# Altium footprint library Nova_PCBLIB.PcbLib: 31 footprints (part 1 of 2)
Each footprint in its own frame and in the unit in brackets; x right, y up, seen from the top. Pads: shape width x height; smd on the part's side, far side on the other; paste and mask are expansions set on the pad; w line width, h text height; cw(c..) or ccw(c..) is an arc to the next point about the centre after c.
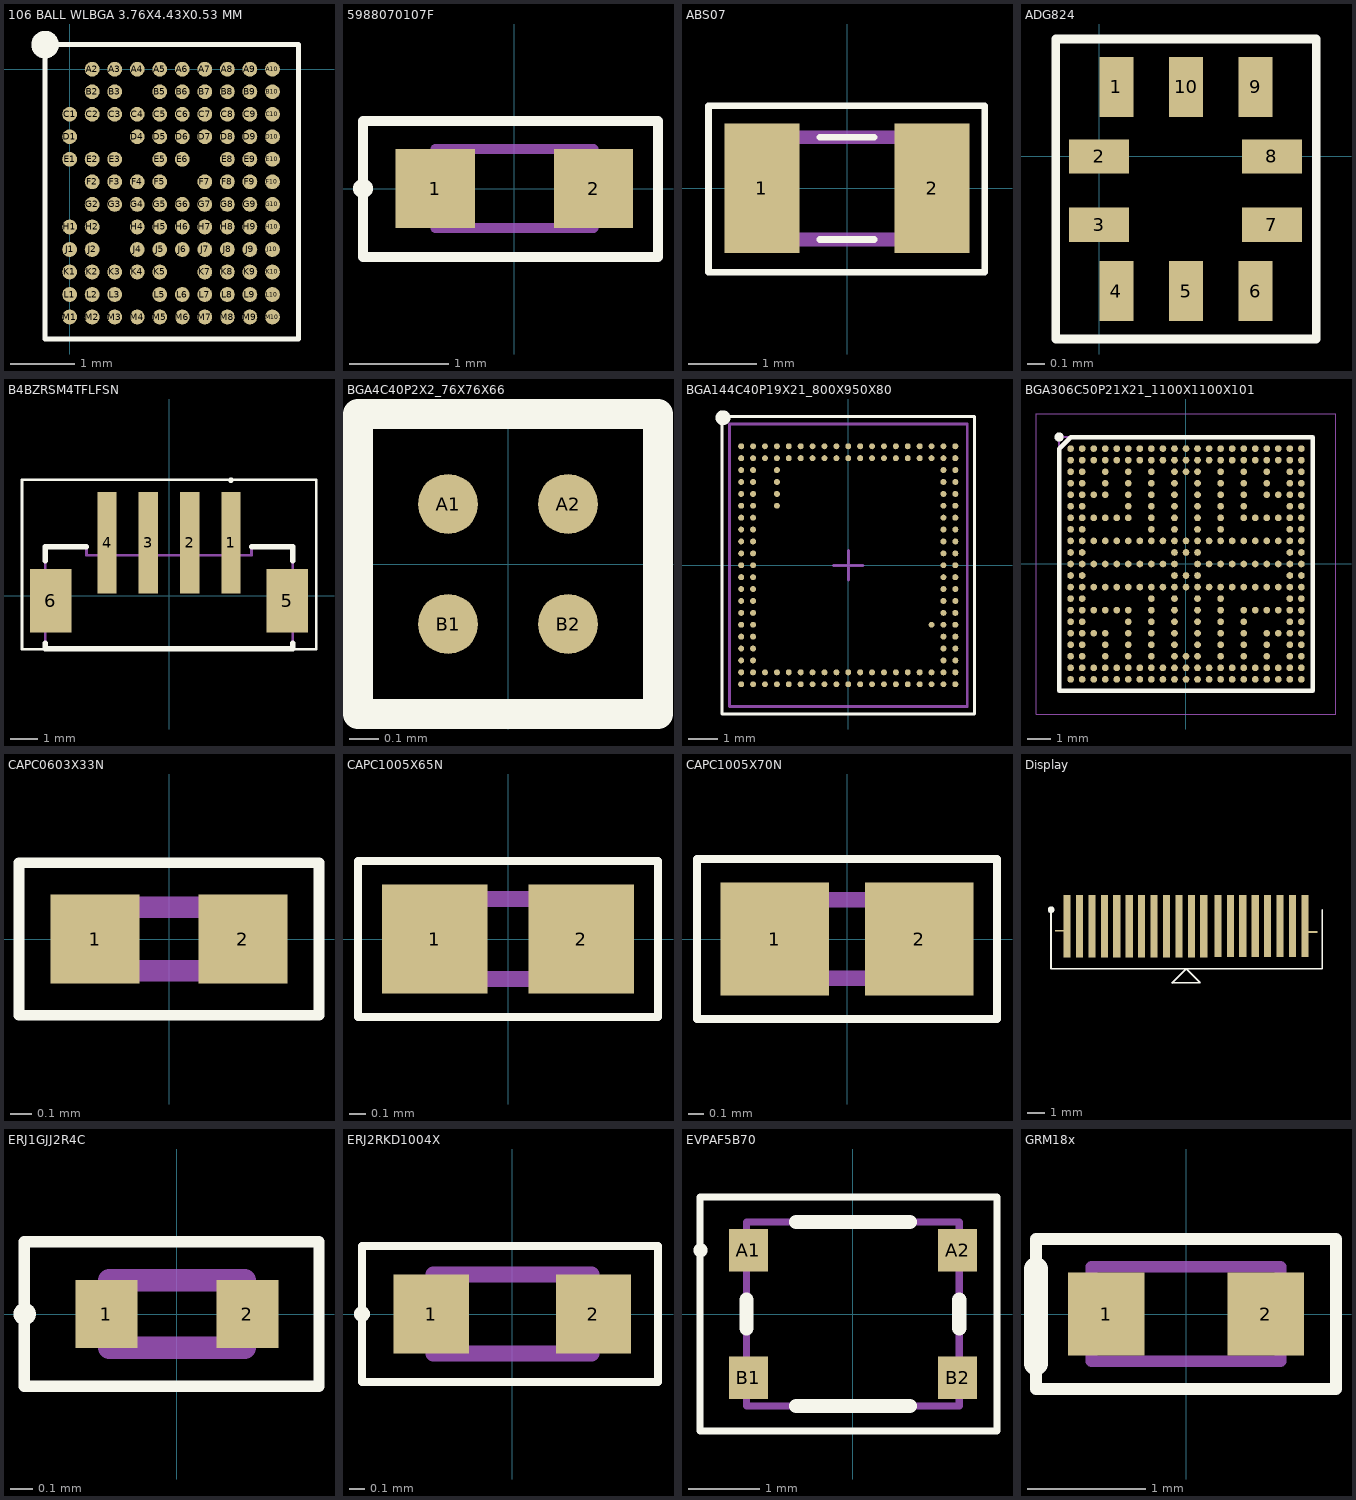
[diagram p0: the footprints below, top view; thin cyan lines are the x and y axes]

## 106 BALL WLBGA 3.76X4.43X0.53 MM [mm]
pads (106):
  round 0.23 smd mask+0.02: A2(0.35,0) A3(0.7,0) A4(1.05,0) A5(1.4,0) A6(1.75,0) A7(2.1,0) A8(2.45,0) A9(2.8,0) A10(3.15,0) B2(0.35,-0.35) B3(0.7,-0.35) B5(1.4,-0.35) B6(1.75,-0.35) B7(2.1,-0.35) B8(2.45,-0.35) B9(2.8,-0.35) B10(3.15,-0.35) C1(0,-0.7) C2(0.35,-0.7) C3(0.7,-0.7) C4(1.05,-0.7) C5(1.4,-0.7) C6(1.75,-0.7) C7(2.1,-0.7) C8(2.45,-0.7) C9(2.8,-0.7) C10(3.15,-0.7) D1(0,-1.05) D4(1.05,-1.05) D5(1.4,-1.05) D6(1.75,-1.05) D7(2.1,-1.05) D8(2.45,-1.05) D9(2.8,-1.05) D10(3.15,-1.05) E1(0,-1.4) E2(0.35,-1.4) E3(0.7,-1.4) E5(1.4,-1.4) E6(1.75,-1.4) E8(2.45,-1.4) E9(2.8,-1.4) E10(3.15,-1.4) F2(0.35,-1.75) F3(0.7,-1.75) F4(1.05,-1.75) F5(1.4,-1.75) F7(2.1,-1.75) F8(2.45,-1.75) F9(2.8,-1.75) F10(3.15,-1.75) G2(0.35,-2.1) G3(0.7,-2.1) G4(1.05,-2.1) G5(1.4,-2.1) G6(1.75,-2.1) G7(2.1,-2.1) G8(2.45,-2.1) G9(2.8,-2.1) G10(3.15,-2.1) H1(0,-2.45) H2(0.35,-2.45) H4(1.05,-2.45) H5(1.4,-2.45) H6(1.75,-2.45) H7(2.1,-2.45) H8(2.45,-2.45) H9(2.8,-2.45) H10(3.15,-2.45) J1(0,-2.8) J2(0.35,-2.8) J4(1.05,-2.8) J5(1.4,-2.8) J6(1.75,-2.8) J7(2.1,-2.8) J8(2.45,-2.8) J9(2.8,-2.8) J10(3.15,-2.8) K1(0,-3.15) K2(0.35,-3.15) K3(0.7,-3.15) K4(1.05,-3.15) K5(1.4,-3.15) K7(2.1,-3.15) K8(2.45,-3.15) K9(2.8,-3.15) K10(3.15,-3.15) L1(0,-3.5) L2(0.35,-3.5) L3(0.7,-3.5) L5(1.4,-3.5) L6(1.75,-3.5) L7(2.1,-3.5) L8(2.45,-3.5) L9(2.8,-3.5) L10(3.15,-3.5) M1(0,-3.85) M2(0.35,-3.85) M3(0.7,-3.85) M4(1.05,-3.85) M5(1.4,-3.85) M6(1.75,-3.85) M7(2.1,-3.85) M8(2.45,-3.85) M9(2.8,-3.85) M10(3.15,-3.85)
Top Overlay:
  circle w0.254: c-0.381,0.381 r0.088
  lines w0.08: -0.381,-4.191 -0.381,0.381 3.556,0.381 3.556,-4.191 -0.381,-4.191

## 5988070107F [mm]
pads (2):
  rect 0.8x0.8 smd: 1(-0.8,0) 2(0.8,0)
Top Overlay:
  lines w0.1: -1.58,0 ccw(c-1.53,0) -1.48,0 ccw(c-1.53,0) -1.58,0 ; -1.53,-0.69 1.45,-0.69 1.45,0.68 -1.53,0.68 -1.53,-0.69
Mechanical 13:
  lines w0.1: -0.8,-0.4 0.8,-0.4 0.8,0.4 -0.8,0.4 -0.8,-0.4
3D body "598-8070-107F.stp": height 0.7, standoff 0, extent -0.8,-0.4 0.8,0.4

## ABS07 [mm]
pads (2):
  rect 1.1x1.9 smd: 1(-1.25,0) 2(1.25,0)
Top Overlay:
  lines w0.1: -0.4,-0.75 0.4,-0.75 ; -0.4,0.75 0.4,0.75 ; -2.03,-1.23 2.02,-1.23 2.02,1.21 -2.03,1.21 -2.03,-1.23
Mechanical 13:
  lines w0.2: -1.6,-0.75 -1.6,0.75 1.6,0.75 1.6,-0.75 -1.6,-0.75
3D body "ABS07-32.768KHZ-T.stp": height 0.9, standoff 0, extent -1.6,-0.75 1.6,0.75

## ADG824 [mm]
pads (10):
  rect 0.2x0.35 smd mask+0.01: 1(0.102,0.406) 4(0.102,-0.787) 5(0.508,-0.787) 6(0.914,-0.787) 9(0.914,0.406) 10(0.508,0.406)
  rect 0.35x0.2 smd mask+0.01: 2(0,0) 3(0,-0.4) 7(1.01,-0.4) 8(1.01,0)
Top Overlay:
  lines w0.05: -0.254,-1.067 -0.254,0.686 1.27,0.686 1.27,-1.067 -0.254,-1.067
3D body "CP_10_10_ADI.step": height 1.4, standoff 0, extent -0.146,-0.993 1.15,0.607

## B4BZRSM4TFLFSN [mm]
pads (6):
  rect 0.7x3.7 smd: 1(2.25,1.925) 2(0.75,1.925) 3(-0.75,1.925) 4(-2.25,1.925)
  rect 1.5x2.3 smd: 5(4.3,-0.175) 6(-4.3,-0.175)
Top Overlay:
  lines w0.1: -5.34,-1.94 -5.34,4.22 5.35,4.22 5.35,-1.94 -5.34,-1.94 ; 2.25,4.15 ccw(c2.25,4.2) 2.25,4.25 ccw(c2.25,4.2) 2.25,4.15
  lines w0.2: -4.5,-1.725 -4.5,-1.925 4.5,-1.925 4.5,-1.725 ; -4.5,1.275 -4.5,1.775 -3,1.775 ; 3,1.775 4.5,1.775 4.5,1.275
Mechanical 13:
  lines w0.1: -4.5,-1.925 -4.5,1.775 -3,1.775 -3,1.475 0,1.475 3,1.475 3,1.775 4.5,1.775 4.5,-1.925 -4.5,-1.925
3D body "B4B-ZR-SM4-TF_LF__SN_.stp": height 5, standoff 0, extent -4.5,-1.67 4.5,3.53

## BGA4C40P2X2_76X76X66 [mil]
pads (4):
  round 8 smd: A1(-8,8) A2(8,8) B1(-8,-8) B2(8,-8)
Top Overlay:
  lines w3.94: -20,-20 -20,20 20,20 20,-20 -20,-20
3D body "ADP191ACBZ-R7.stp": height 25.98, standoff 0, extent -15.75,-15.75 15.75,15.75

## BGA144C40P19X21_800X950X80 [mm] "BGA, 144-Leads, Body 8.00x9.50mmx0.80mm, Pitch 0.40mm"
height 0.8
pads (149):
  round 0.2 smd: A1(-3.6,4) A2(-3.2,4) A3(-2.8,4) A4(-2.4,4) A5(-2,4) A6(-1.6,4) A7(-1.2,4) A8(-0.8,4) A9(-0.4,4) A10(0,4) A11(0.4,4) A12(0.8,4) A13(1.2,4) A14(1.6,4) A15(2,4) A16(2.4,4) A17(2.8,4) A18(3.2,4) A19(3.6,4) AA1(-3.6,-4) AA2(-3.2,-4) AA3(-2.8,-4) AA4(-2.4,-4) AA5(-2,-4) AA6(-1.6,-4) AA7(-1.2,-4) AA8(-0.8,-4) AA9(-0.4,-4) AA10(0,-4) AA11(0.4,-4) AA12(0.8,-4) AA13(1.2,-4) AA14(1.6,-4) AA15(2,-4) AA16(2.4,-4) AA17(2.8,-4) AA18(3.2,-4) AA19(3.6,-4) B1(-3.6,3.6) B2(-3.2,3.6) B3(-2.8,3.6) B4(-2.4,3.6) B5(-2,3.6) B6(-1.6,3.6) B7(-1.2,3.6) B8(-0.8,3.6) B9(-0.4,3.6) B10(0,3.6) B11(0.4,3.6) B12(0.8,3.6) B13(1.2,3.6) B14(1.6,3.6) B15(2,3.6) B16(2.4,3.6) B17(2.8,3.6) B18(3.2,3.6) B19(3.6,3.6) C1(-3.6,3.2) C2(-3.2,3.2) C18(3.2,3.2) C19(3.6,3.2) D1(-3.6,2.8) D2(-3.2,2.8) D18(3.2,2.8) D19(3.6,2.8) E1(-3.6,2.4) E2(-3.2,2.4) E18(3.2,2.4) E19(3.6,2.4) F1(-3.6,2) F2(-3.2,2) F18(3.2,2) F19(3.6,2) G1(-3.6,1.6) G2(-3.2,1.6) G18(3.2,1.6) G19(3.6,1.6) H1(-3.6,1.2) H2(-3.2,1.2) H18(3.2,1.2) H19(3.6,1.2) J1(-3.6,0.8) J2(-3.2,0.8) J18(3.2,0.8) J19(3.6,0.8) K1(-3.6,0.4) K2(-3.2,0.4) K18(3.2,0.4) K19(3.6,0.4) L1(-3.6,0) L2(-3.2,0) L18(3.2,0) L19(3.6,0) M1(-3.6,-0.4) M2(-3.2,-0.4) M18(3.2,-0.4) M19(3.6,-0.4) N1(-3.6,-0.8) N2(-3.2,-0.8) N18(3.2,-0.8) N19(3.6,-0.8) P1(-3.6,-1.2) P2(-3.2,-1.2) P18(3.2,-1.2) P19(3.6,-1.2) R1(-3.6,-1.6) R2(-3.2,-1.6) R18(3.2,-1.6) R19(3.6,-1.6) T(-2.4,2) T(-2.4,2.4) T(-2.4,2.8) T(-2.4,3.2) T1(-3.6,-2) T2(-3.2,-2) T18(2.8,-2) T18(3.2,-2) T19(3.6,-2) U1(-3.6,-2.4) U2(-3.2,-2.4) U18(3.2,-2.4) U19(3.6,-2.4) V1(-3.6,-2.8) V2(-3.2,-2.8) V18(3.2,-2.8) V19(3.6,-2.8) W1(-3.6,-3.2) W2(-3.2,-3.2) W18(3.2,-3.2) W19(3.6,-3.2) Y1(-3.6,-3.6) Y2(-3.2,-3.6) Y3(-2.8,-3.6) Y4(-2.4,-3.6) Y5(-2,-3.6) Y6(-1.6,-3.6) Y7(-1.2,-3.6) Y8(-0.8,-3.6) Y9(-0.4,-3.6) Y10(0,-3.6) Y11(0.4,-3.6) Y12(0.8,-3.6) Y13(1.2,-3.6) Y14(1.6,-3.6) Y15(2,-3.6) Y16(2.4,-3.6) Y17(2.8,-3.6) Y18(3.2,-3.6) Y19(3.6,-3.6)
Top Overlay:
  circle w0.25: c-4.21,4.96 r0.125
  lines w0.102: -4.25,-5 4.25,-5 4.25,5 -4.25,5 -4.25,-5
Mechanical 13:
  lines w0.1: -4,-4.75 4,-4.75 4,4.75 -4,4.75 -4,-4.75
Mechanical 15:
  lines w0.1: -0.5,0 0.5,0 ; 0,-0.5 0,0.5
3D body: height 0.8, standoff 0, extent -4,-4.75 4,4.75

## BGA306C50P21X21_1100X1100X101 [mm]
pads (306):
  round 0.29 smd: A1(-5,5) A2(-4.5,5) A3(-4,5) A4(-3.5,5) A5(-3,5) A6(-2.5,5) A7(-2,5) A8(-1.5,5) A9(-1,5) A10(-0.5,5) A11(0,5) A12(0.5,5) A13(1,5) A14(1.5,5) A15(2,5) A16(2.5,5) A17(3,5) A18(3.5,5) A19(4,5) A20(4.5,5) A21(5,5) AA1(-5,-5) AA2(-4.5,-5) AA3(-4,-5) AA4(-3.5,-5) AA5(-3,-5) AA6(-2.5,-5) AA7(-2,-5) AA8(-1.5,-5) AA9(-1,-5) AA10(-0.5,-5) AA11(0,-5) AA12(0.5,-5) AA13(1,-5) AA14(1.5,-5) AA15(2,-5) AA16(2.5,-5) AA17(3,-5) AA18(3.5,-5) AA19(4,-5) AA20(4.5,-5) AA21(5,-5) B1(-5,4.5) B2(-4.5,4.5) B3(-4,4.5) B4(-3.5,4.5) B5(-3,4.5) B6(-2.5,4.5) B7(-2,4.5) B8(-1.5,4.5) B9(-1,4.5) B10(-0.5,4.5) B11(0,4.5) B12(0.5,4.5) B13(1,4.5) B14(1.5,4.5) B15(2,4.5) B16(2.5,4.5) B17(3,4.5) B18(3.5,4.5) B19(4,4.5) B20(4.5,4.5) B21(5,4.5) C1(-5,4) C2(-4.5,4) C4(-3.5,4) C6(-2.5,4) C8(-1.5,4) C10(-0.5,4) C11(0,4) C12(0.5,4) C14(1.5,4) C16(2.5,4) C18(3.5,4) C20(4.5,4) C21(5,4) D1(-5,3.5) D2(-4.5,3.5) D4(-3.5,3.5) D6(-2.5,3.5) D8(-1.5,3.5) D10(-0.5,3.5) D12(0.5,3.5) D14(1.5,3.5) D16(2.5,3.5) D18(3.5,3.5) D20(4.5,3.5) D21(5,3.5) E1(-5,3) E2(-4.5,3) E3(-4,3) E4(-3.5,3) E6(-2.5,3) E8(-1.5,3) E10(-0.5,3) E12(0.5,3) E14(1.5,3) E16(2.5,3) E18(3.5,3) E19(4,3) E20(4.5,3) E21(5,3) F1(-5,2.5) F2(-4.5,2.5) F6(-2.5,2.5) F8(-1.5,2.5) F10(-0.5,2.5) F12(0.5,2.5) F14(1.5,2.5) F16(2.5,2.5) F20(4.5,2.5) F21(5,2.5) G1(-5,2) G2(-4.5,2) G3(-4,2) G4(-3.5,2) G5(-3,2) G6(-2.5,2) G8(-1.5,2) G10(-0.5,2) G12(0.5,2) G14(1.5,2) G16(2.5,2) G17(3,2) G18(3.5,2) G19(4,2) G20(4.5,2) G21(5,2) H1(-5,1.5) H2(-4.5,1.5) H8(-1.5,1.5) H10(-0.5,1.5) H12(0.5,1.5) H14(1.5,1.5) H20(4.5,1.5) H21(5,1.5) J1(-5,1) J2(-4.5,1) J3(-4,1) J4(-3.5,1) J5(-3,1) J6(-2.5,1) J7(-2,1) J8(-1.5,1) J9(-1,1) J10(-0.5,1) J11(0,1) J12(0.5,1) J13(1,1) J14(1.5,1) J15(2,1) J16(2.5,1) J17(3,1) J18(3.5,1) J19(4,1) J20(4.5,1) J21(5,1) K1(-5,0.5) K2(-4.5,0.5) K10(-0.5,0.5) K11(0,0.5) K12(0.5,0.5) K20(4.5,0.5) K21(5,0.5) L1(-5,0) L2(-4.5,0) L3(-4,0) L4(-3.5,0) L5(-3,0) L6(-2.5,0) L7(-2,0) L8(-1.5,0) L9(-1,0) L10(-0.5,0) L12(0.5,0) L13(1,0) L14(1.5,0) L15(2,0) L16(2.5,0) L17(3,0) L18(3.5,0) L19(4,0) L20(4.5,0) L21(5,0) M1(-5,-0.5) M2(-4.5,-0.5) M10(-0.5,-0.5) M11(0,-0.5) M12(0.5,-0.5) M20(4.5,-0.5) M21(5,-0.5) N1(-5,-1) N2(-4.5,-1) N3(-4,-1) N4(-3.5,-1) N5(-3,-1) N6(-2.5,-1) N7(-2,-1) N8(-1.5,-1) N9(-1,-1) N10(-0.5,-1) N11(0,-1) N12(0.5,-1) N13(1,-1) N14(1.5,-1) N15(2,-1) N16(2.5,-1) N17(3,-1) N18(3.5,-1) N19(4,-1) N20(4.5,-1) N21(5,-1) P1(-5,-1.5) P2(-4.5,-1.5) P8(-1.5,-1.5) P10(-0.5,-1.5) P12(0.5,-1.5) P14(1.5,-1.5) P20(4.5,-1.5) P21(5,-1.5) R1(-5,-2) R2(-4.5,-2) R3(-4,-2) R4(-3.5,-2) R5(-3,-2) R6(-2.5,-2) R8(-1.5,-2) R10(-0.5,-2) R12(0.5,-2) R14(1.5,-2) R16(2.5,-2) R17(3,-2) R18(3.5,-2) R19(4,-2) R20(4.5,-2) R21(5,-2) T1(-5,-2.5) T2(-4.5,-2.5) T6(-2.5,-2.5) T8(-1.5,-2.5) T10(-0.5,-2.5) T12(0.5,-2.5) T14(1.5,-2.5) T16(2.5,-2.5) T20(4.5,-2.5) T21(5,-2.5) U1(-5,-3) U2(-4.5,-3) U3(-4,-3) U4(-3.5,-3) U6(-2.5,-3) U8(-1.5,-3) U10(-0.5,-3) U12(0.5,-3) U14(1.5,-3) U16(2.5,-3) U18(3.5,-3) U19(4,-3) U20(4.5,-3) U21(5,-3) V1(-5,-3.5) V2(-4.5,-3.5) V4(-3.5,-3.5) V6(-2.5,-3.5) V8(-1.5,-3.5) V10(-0.5,-3.5) V12(0.5,-3.5) V14(1.5,-3.5) V16(2.5,-3.5) V18(3.5,-3.5) V20(4.5,-3.5) V21(5,-3.5) W1(-5,-4) W2(-4.5,-4) W4(-3.5,-4) W6(-2.5,-4) W8(-1.5,-4) W10(-0.5,-4) W11(0,-4) W12(0.5,-4) W14(1.5,-4) W16(2.5,-4) W18(3.5,-4) W20(4.5,-4) W21(5,-4) Y1(-5,-4.5) Y2(-4.5,-4.5) Y3(-4,-4.5) Y4(-3.5,-4.5) Y5(-3,-4.5) Y6(-2.5,-4.5) Y7(-2,-4.5) Y8(-1.5,-4.5) Y9(-1,-4.5) Y10(-0.5,-4.5) Y11(0,-4.5) Y12(0.5,-4.5) Y13(1,-4.5) Y14(1.5,-4.5) Y15(2,-4.5) Y16(2.5,-4.5) Y17(3,-4.5) Y18(3.5,-4.5) Y19(4,-4.5) Y20(4.5,-4.5) Y21(5,-4.5)
Top Overlay:
  circle w0.2: c-5.5,5.5 r0.1
  lines w0.2: -5.5,-5.5 -5.5,5 -5,5.5 5.5,5.5 5.5,-5.5 -5.5,-5.5
Mechanical 15:
  lines w0.1: -5.5,-5.5 -5.5,5.5 5.5,5.5 5.5,-5.5 -5.5,-5.5
Mechanical 20:
  lines w0.05: -6.5,-6.5 -6.5,6.5 6.5,6.5 6.5,-6.5 -6.5,-6.5
3D body "MIMX8MN5DVPIZAA.stp": height 1.01, standoff 0, extent -5.5,-5.5 5.5,5.5

## CAPC0603X33N [mm]
pads (2):
  rect 0.42x0.42 smd: 1(-0.35,0) 2(0.35,0)
Top Overlay:
  lines w0.05: -0.71,-0.36 0.71,-0.36 0.71,0.36 -0.71,0.36 -0.71,-0.36
Mechanical 13:
  lines w0.1: -0.3,-0.15 0.3,-0.15 0.3,0.15 -0.3,0.15 -0.3,-0.15
3D body "CGA1A2C0G1E120J030BA.stp": height 0.33, standoff 0, extent -0.3,-0.15 0.3,0.15

## CAPC1005X65N [mm]
pads (2):
  rect 0.66x0.68 smd: 1(-0.46,0) 2(0.46,0)
Top Overlay:
  lines w0.05: -0.94,-0.49 -0.94,0.49 0.94,0.49 0.94,-0.49 -0.94,-0.49
Mechanical 13:
  lines w0.1: -0.5,-0.25 -0.5,0.25 0.5,0.25 0.5,-0.25 -0.5,-0.25
3D body "GRM155R60J106ME15D.stp": height 0.65, standoff 0, extent -0.5,-0.25 0.5,0.25

## CAPC1005X70N [mm]
pads (2):
  rect 0.69x0.72 smd: 1(-0.46,0) 2(0.46,0)
Top Overlay:
  lines w0.05: -0.955,-0.51 0.955,-0.51 0.955,0.51 -0.955,0.51 -0.955,-0.51
Mechanical 13:
  lines w0.1: -0.5,-0.25 -0.5,0.25 0.5,0.25 0.5,-0.25 -0.5,-0.25
3D body "GRT155D70G106ME13D.stp": height 0.7, standoff 0, extent -0.5,-0.25 0.5,0.25

## Display [mm]
pads (22):
  rect 0.5x0.1 smd mask+0.05: 1(-134.14,-175.25) 1(-119.86,-175.32)
  rect 0.4x3.5 smd mask+0.05: 1(-133.7,-175) 2(-133,-175) 3(-132.3,-175) 4(-131.6,-175) 5(-130.9,-175) 6(-130.2,-175) 7(-129.5,-175) 8(-128.8,-175) 9(-128.1,-175) 10(-127.4,-175) 11(-126.7,-175) 12(-126,-175) 13(-125.204,-174.982) 14(-124.504,-174.982) 15(-123.804,-174.982) 16(-123.104,-174.982) 17(-122.404,-174.982) 18(-121.704,-174.982) 19(-121.004,-174.982) 20(-120.304,-174.982)
Top Overlay:
  circle w0.254: c-134.6,-174.066 r0.061
  lines w0.08: -127.799,-178.2 -126.992,-177.394 -126.2,-178.186 -127.785,-178.186
  lines w0.1: -134.6,-174.066 -134.6,-177.394 -119.33,-177.394 -119.33,-174.066

## ERJ1GJJ2R4C [mm]
pads (2):
  rect 0.275x0.3 smd: 1(-0.313,0) 2(0.313,0)
Top Overlay:
  lines w0.05: -0.676,-0.32 0.63,-0.32 0.63,0.32 -0.676,0.32 -0.676,-0.32 ; -0.675,-0.025 cw(c-0.675,0) -0.675,0.025 cw(c-0.675,0) -0.675,-0.025
Mechanical 13:
  lines w0.1: -0.3,-0.15 0.3,-0.15 0.3,0.15 -0.3,0.15 -0.3,-0.15
3D body "ERJ-1GJF1003C.stp": height 0.23, standoff 0, extent -0.3,-0.15 0.3,0.15

## ERJ2RKD1004X [mm]
pads (2):
  rect 0.475x0.5 smd: 1(-0.512,0) 2(0.512,0)
Top Overlay:
  lines w0.05: -0.95,-0.43 -0.95,0.43 0.92,0.43 0.92,-0.43 -0.95,-0.43 ; -0.95,-0.025 cw(c-0.95,0) -0.95,0.025 cw(c-0.95,0) -0.95,-0.025
Mechanical 13:
  lines w0.1: -0.5,-0.25 0.5,-0.25 0.5,0.25 -0.5,0.25 -0.5,-0.25
3D body "ERJ-2GEJ514X.stp": height 0.35, standoff 0, extent -0.5,-0.25 0.5,0.25

## EVPAF5B70 [mm]
pads (4):
  rect 0.55x0.6 smd: A1(-1.475,0.9) A2(1.475,0.9) B1(-1.475,-0.9) B2(1.475,-0.9)
Top Overlay:
  lines w0.1: -2.2,0.9 cw(c-2.15,0.9) -2.1,0.9 cw(c-2.15,0.9) -2.2,0.9 ; -2.159,-1.651 2.032,-1.651 2.032,1.651 -2.159,1.651 -2.159,-1.651
  lines w0.2: -1.5,-0.2 -1.5,0.2 ; -0.8,-1.3 0.8,-1.3 ; -0.8,1.3 0.8,1.3 ; 1.5,-0.2 1.5,0.2
Mechanical 13:
  lines w0.1: -1.5,-1.3 -1.5,1.3 1.5,1.3 1.5,-1.3 -1.5,-1.3
3D body "EVP-AF5B70.stp": height 0.7, standoff 0, extent -1.7,-1.3 1.7,1.3

## GRM18x [mm]
pads (2):
  rect 0.65x0.7 smd: 1(-0.675,0) 2(0.675,0)
Top Overlay:
  lines w0.1: -1.27,-0.635 1.27,-0.635 1.27,0.635 -1.27,0.635 -1.27,-0.635
  lines w0.2: -1.27,-0.419 -1.27,0.381
Mechanical 13:
  lines w0.1: -0.8,-0.4 0.8,-0.4 0.8,0.4 -0.8,0.4 -0.8,-0.4
3D body "GRM187R61A226ME15D.stp": height 0.8, standoff 0, extent -0.8,-0.45 0.8,0.45